# Altium footprint library WL-SICW.PcbLib: 6 footprints
Each footprint in its own frame and in the unit in brackets; x right, y up, seen from the top. Pads: shape width x height; smd on the part's side, far side on the other; paste and mask are expansions set on the pad; w line width, h text height; cw(c..) or ccw(c..) is an arc to the next point about the centre after c.
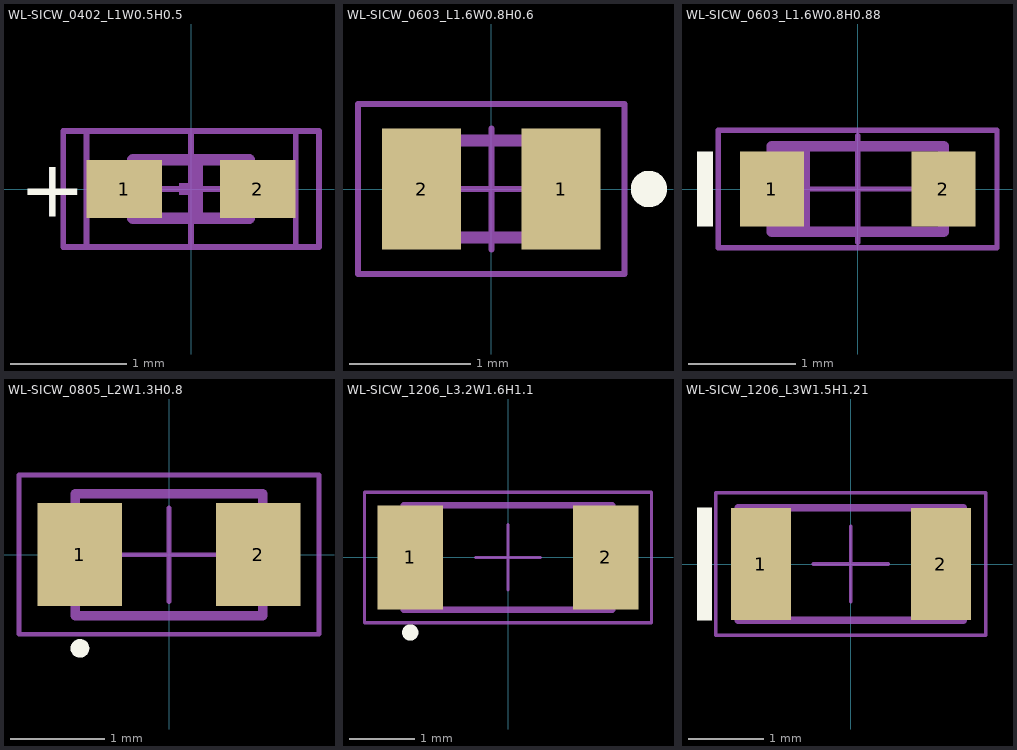
[diagram p0: the footprints below, top view; thin cyan lines are the x and y axes]

## WL-SICW_0402_L1W0.5H0.5 [mm] "SMT Infrared Chip LED Waterclear, body 1x0.5mm"
height 0.5
pads (2):
  rect 0.65x0.5 smd: 1(-0.575,0) 2(0.575,0)
Top Overlay:
  text "+" at -1.48,-0.24 h0.5
Top Designator:
  text ".Designator" at -2.499,-0.167 h0.5
Top Component Outline:
  lines w0.05: -0.9,-0.5 0.9,-0.5 0.9,0.5 -0.9,0.5 -0.9,-0.5
Top 3D Body:
  region: 0.1,0.25 0.1,-0.25 0,-0.25 0,-0.05 -0.1,-0.05 -0.1,0.05 0,0.05 0,0.25
  lines w0.1: -0.5,-0.25 -0.5,0.25 0.5,0.25 0.5,-0.25 -0.5,-0.25
Top Courtyard:
  lines w0.05: -0.5,0 0.5,0 ; 0,-0.5 0,0.5 ; -1.1,-0.5 -1.1,0.5 1.1,0.5 1.1,-0.5 -1.1,-0.5
3D body "154040xxBA420_l.stp": height 0.5, standoff 0, extent -0.5,-0.25 0.5,0.25

## WL-SICW_0603_L1.6W0.8H0.6 [mm] "SMD Infrared Chip LED Waterclear, body 1.6x0.8mm"
height 0.6
pads (2):
  rect 0.65x1 smd: 1(0.575,0) 2(-0.575,0)
Top Overlay:
  circle w0.15: c1.3,0 r0.075
Top Designator:
  text ".Designator" at -2.499,-0.167 h0.5
Top Component Outline:
  circle w0.05: c0.6,0.2 r0.1
  lines w0.05: -0.8,-0.4 0.8,-0.4 0.8,0.4 -0.8,0.4 -0.8,-0.4
Top 3D Body:
  circle w0.05: c0.6,0.2 r0.1
  lines w0.1: -0.8,-0.4 -0.8,0.4 0.8,0.4 0.8,-0.4 -0.8,-0.4
Top Courtyard:
  lines w0.05: -0.5,0 0.5,0 ; 0,-0.5 0,0.5 ; -1.1,-0.7 -1.1,0.7 1.1,0.7 1.1,-0.7 -1.1,-0.7
3D body "15406085xxx.stp": height 0.6, standoff 0, extent -0.8,-0.4 0.8,0.4

## WL-SICW_0603_L1.6W0.8H0.88 [mm] "SMT Infrared Chip LED Waterclear, body 1.6x0.8mm"
height 0.88
pads (2):
  rect 0.6x0.7 smd: 1(-0.8,0) 2(0.8,0)
Top Overlay:
  rectangle: -1.5,-0.35 -1.35,0.35
Top Designator:
  text ".Designator" at -2.499,-0.167 h0.5
Top Component Outline:
  lines w0.05: -0.8,-0.4 0.8,-0.4 0.8,0.4 -0.8,0.4 -0.8,-0.4
Top 3D Body:
  region: -0.8,0.4 -0.8,-0.4 -0.45,-0.4 -0.45,0.4
  lines w0.1: -0.8,-0.4 -0.8,0.4 0.8,0.4 0.8,-0.4 -0.8,-0.4
Top Courtyard:
  lines w0.05: -0.5,0 0.5,0 ; 0,-0.5 0,0.5 ; -1.3,-0.55 -1.3,0.55 1.3,0.55 1.3,-0.55 -1.3,-0.55
3D body "154060xxBA4xx.stp": height 0.88, standoff 0, extent -0.8,-0.4 0.8,0.4

## WL-SICW_0805_L2W1.3H0.8 [mm] "SMT Infrared Chip LED Waterclear, body 2x1.3mm"
height 0.8
pads (2):
  rect 0.9x1.1 smd: 1(-0.95,0) 2(0.95,0)
Top Overlay:
  circle w0.1: c-0.95,-1 r0.05
Top Designator:
  text ".Designator" at -2.499,-0.167 h0.5
Top Component Outline:
  circle w0.05: c-0.75,-0.4 r0.1
  lines w0.1: -1,-0.65 1,-0.65 1,0.65 -1,0.65 -1,-0.65
Top 3D Body:
  circle w0.05: c-0.75,-0.4 r0.1
  lines w0.1: -1,-0.65 -1,0.65 1,0.65 1,-0.65 -1,-0.65
Top Courtyard:
  lines w0.05: -0.5,0 0.5,0 ; 0,-0.5 0,0.5 ; -1.6,-0.85 1.6,-0.85 1.6,0.85 -1.6,0.85 -1.6,-0.85
3D body "15408085BA400.stp": height 0.8, standoff 0, extent -1,-0.65 1,0.65

## WL-SICW_1206_L3.2W1.6H1.1 [mm] "SMT Infrared Chip LED Waterclear, body 3x1.6mm"
height 1.1
pads (2):
  rect 1x1.6 smd: 1(-1.5,0) 2(1.5,0)
Top Overlay:
  circle w0.15: c-1.5,-1.15 r0.05
Top Designator:
  text ".Designator" at -4.998,-0.333 h1
Top Component Outline:
  circle w0.05: c-1.35,-0.55 r0.1
  lines w0.1: -1.6,-0.8 -1.6,0.8 1.6,0.8 1.6,-0.8 -1.6,-0.8
Top 3D Body:
  circle w0.05: c-1.35,-0.55 r0.1
  lines w0.1: -1.6,-0.8 1.6,-0.8 1.6,0.8 -1.6,0.8 -1.6,-0.8
Top Courtyard:
  lines w0.05: -0.5,0 0.5,0 ; 0,-0.5 0,0.5 ; -2.2,-1 -2.2,1 2.2,1 2.2,-1 -2.2,-1
3D body "15412085BA400.stp": height 1.1, standoff 0, extent -1.6,-0.8 1.6,0.8

## WL-SICW_1206_L3W1.5H1.21 [mm] "SMT Infrared Chip LED Waterclear, body 3x1.5mm"
height 1.21
pads (2):
  rect 0.8x1.5 smd: 1(-1.2,0) 2(1.2,0)
Top Overlay:
  region: -2.05,0.75 -2.05,-0.75 -1.85,-0.75 -1.85,0.75
Top Designator:
  text ".Designator" at -3.999,-0.267 h0.8
Top Component Outline:
  region: -1.5,0.75 -1.5,-0.75 -1.15,-0.75 -1.15,0.75
  lines w0.1: -1.5,-0.75 1.5,-0.75 1.5,0.75 -1.5,0.75 -1.5,-0.75
Top 3D Body:
  region: -1.5,0.75 -1.5,-0.75 -1.15,-0.75 -1.15,0.75
  lines w0.1: -1.5,-0.75 -1.5,0.75 1.5,0.75 1.5,-0.75 -1.5,-0.75
Top Courtyard:
  lines w0.05: -0.5,0 0.5,0 ; 0,-0.5 0,0.5 ; -1.8,-0.95 1.8,-0.95 1.8,0.95 -1.8,0.95 -1.8,-0.95
3D body "154120xxA90xx.stp": height 1.21, standoff 0, extent -1.5,-0.75 1.5,0.75